# EAGLE library part M95M01-DFCS6TP/K (library M95M01-DFDW6TP)
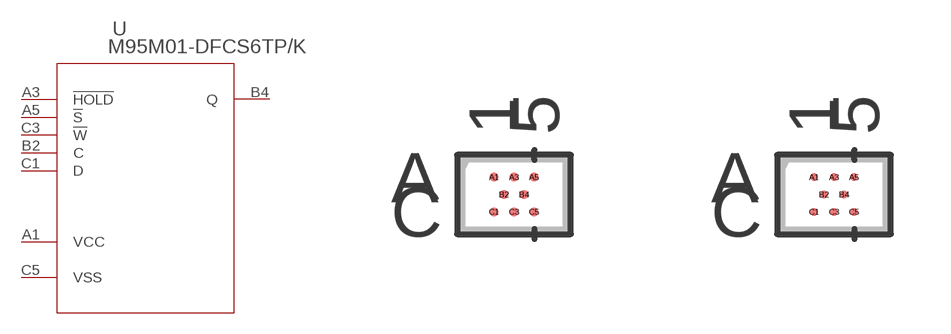
[diagram p0: symbol with the pads of WLCSP8_2P578X1P716_STM; footprints WLCSP8_2P578X1P716_STM, WLCSP8_2P578X1P716_STM-M]

Designator prefix U

## M95M01-DFCS6TP/K (BUILT_BY: EMA_Cory; COPYRIGHT: Copyright (C) 2018 Accelerated Designs. All rights reserved; DATASHEET: https://www.st.com/content/ccc/resource/technical/document/datasheet/ad/ab/88/6c/dc/4b/4c/28/CD00152481.pdf/files/CD00152481.pdf/jcr:content/translations/en.CD00152481.pdf; MANUFACTURER_PART_NUMBER: M95M01-DFCS6TP/K; SOURCELIBRARY: Add_to_database_2020-11-02; VENDOR: STMicroelectronics)  [WLCSP8_2P578X1P716_STM]
A1  VCC  pwr
A3  !HOLD  in
A5  !S  in
B2  C  in
B4  Q  out
C1  D  in
C3  !W  in
C5  VSS  pas

## M95M01-DFCS6TP/KWLCSP8_2P578X1P716_STM-M (BUILT_BY: EMA_Cory; COPYRIGHT: Copyright (C) 2018 Accelerated Designs. All rights reserved; DATASHEET: https://www.st.com/content/ccc/resource/technical/document/datasheet/ad/ab/88/6c/dc/4b/4c/28/CD00152481.pdf/files/CD00152481.pdf/jcr:content/translations/en.CD00152481.pdf; MANUFACTURER_PART_NUMBER: M95M01-DFCS6TP/K; SOURCELIBRARY: Add_to_database_2020-11-02; VENDOR: STMicroelectronics)  [WLCSP8_2P578X1P716_STM-M]
Pads as for WLCSP8_2P578X1P716_STM

## M95M01-DFCS6TP/KWLCSP8_2P578X1P716_STM-L (BUILT_BY: EMA_Cory; COPYRIGHT: Copyright (C) 2018 Accelerated Designs. All rights reserved; DATASHEET: https://www.st.com/content/ccc/resource/technical/document/datasheet/ad/ab/88/6c/dc/4b/4c/28/CD00152481.pdf/files/CD00152481.pdf/jcr:content/translations/en.CD00152481.pdf; MANUFACTURER_PART_NUMBER: M95M01-DFCS6TP/K; SOURCELIBRARY: Add_to_database_2020-11-02; VENDOR: STMicroelectronics)  [WLCSP8_2P578X1P716_STM-L]
Pads as for WLCSP8_2P578X1P716_STM

## Footprint WLCSP8_2P578X1P716_STM (pad centres in mm)
smd 0.229 x 0.229: A1 -0.5,0.433; A3 0,0.433; A5 0.5,0.433; B2 -0.25,0; B4 0.25,0; C1 -0.5,-0.433; C3 0,-0.433; C5 0.5,-0.433

## Footprint WLCSP8_2P578X1P716_STM-M (pad centres in mm)
smd 0.203 x 0.203: A1 -0.5,0.433; A3 0,0.433; A5 0.5,0.433; B2 -0.25,0; B4 0.25,0; C1 -0.5,-0.433; C3 0,-0.433; C5 0.5,-0.433

## Footprint WLCSP8_2P578X1P716_STM-L (pad centres in mm)
smd 0.229 x 0.229: A1 -0.5,0.433; A3 0,0.433; A5 0.5,0.433; B2 -0.25,0; B4 0.25,0; C1 -0.5,-0.433; C3 0,-0.433; C5 0.5,-0.433